# Altium schematic symbol library VD.SchLib: 10 symbols
Pins are listed as number, name and electrical type; pins without a type are passive.

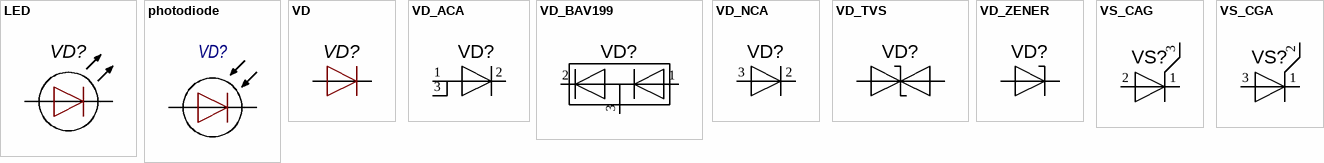
[diagram p0: symbols LED to VS_CGA]

## LED
designator VD?
pins: 1 A, 2 C

## photodiode
designator VD?, comment VD  (value not drawn)
pins: 1 A, 2 C

## VD
designator VD?
footprint SOD123 (SODFL, 2-Leads, Body 1.55x3.75mm, IPC Medium Density)
pins: 1 A, 2 C

## VD_ACA
designator VD?
pins: 1 A, 2 C, 3 A

## VD_BAV199
designator VD?
pins: 1, 2, 3

## VD_NCA
designator VD?
pins: 2 C, 3 A

## VD_TVS
designator VD?
pins: 1, 2

## VD_ZENER
designator VD?
pins: 1 A, 2 C

## VS_CAG
designator VS?
pins: 1 C, 2 A, 3 G

## VS_CGA
designator VS?
pins: 1 C, 2 G, 3 A